# EAGLE library part POLOLU-DRV8833 (library Pololu_Driver_DRV8833)
Created by: Deltarios DRV8833 pololu dual drive controller, PCB-ready device
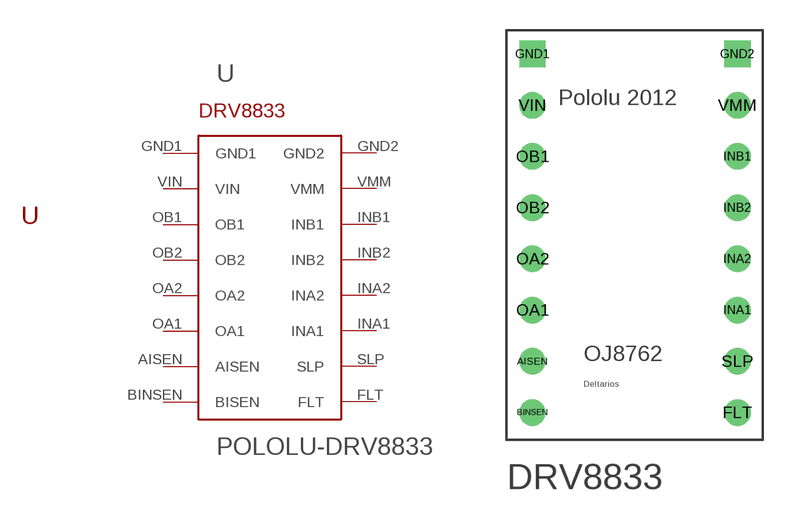
[diagram p0: symbol with the pads of POLOLU-DRV8833; footprint POLOLU-DRV8833]

Designator prefix -

## POLOLU-DRV8833  [POLOLU-DRV8833]
AISEN  AISEN
BINSEN  BISEN
FLT  FLT
GND1  GND1
GND2  GND2
INA1  INA1
INA2  INA2
INB1  INB1
INB2  INB2
OA1  OA1
OA2  OA2
OB1  OB1
OB2  OB2
SLP  SLP
VIN  VIN
VMM  VMM  out

## Footprint POLOLU-DRV8833 (pad centres in mm)
drill 0.8: AISEN -3.81,-7.62; BINSEN -3.81,-10.16; FLT 6.35,-10.16; INA1 6.35,-5.08; INA2 6.35,-2.54; INB1 6.35,2.54; INB2 6.35,0; OA1 -3.81,-5.08; OA2 -3.81,-2.54; OB1 -3.81,2.54; OB2 -3.81,0; SLP 6.35,-7.62; VIN -3.81,5.08; VMM 6.35,5.08
drill 0.8 square: GND1 -3.81,7.62; GND2 6.35,7.62